# Altium footprint library Res_Cement_Pcb.PcbLib: 1 footprints
Each footprint in its own frame and in the unit in brackets; x right, y up, seen from the top. Pads: shape width x height; smd on the part's side, far side on the other; paste and mask are expansions set on the pad; w line width, h text height; cw(c..) or ccw(c..) is an arc to the next point about the centre after c.
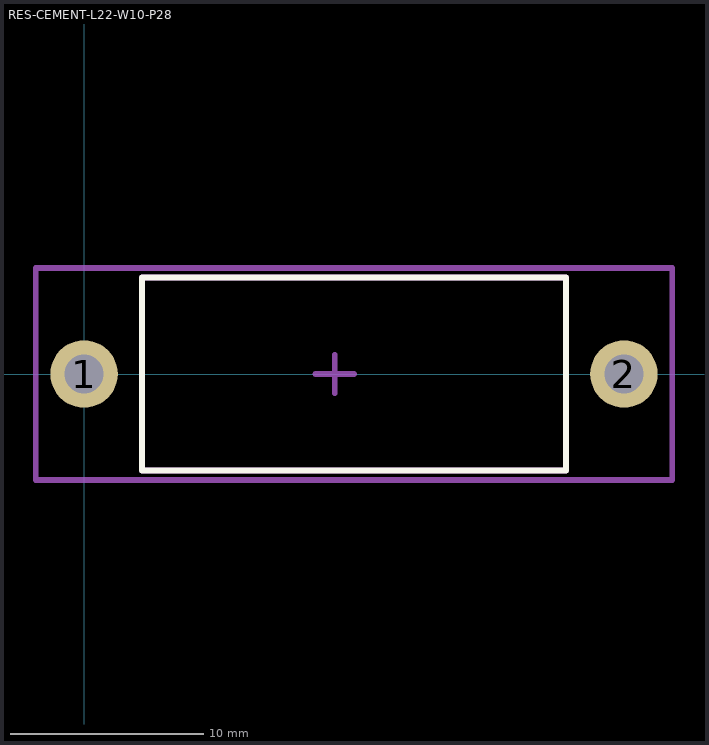
[diagram p0: the footprint, top view; thin cyan lines are the x and y axes]

## RES-CEMENT-L22-W10-P28 [mm]
pads (2):
  round 3.5 hole 2: 1(0,0) 2(28,0)
Top Overlay:
  lines w0.3: 3,-5 25,-5 25,5 3,5 3,0 3,-5
Mechanical 13:
  lines w0.3: 3,-5 25,-5 25,5 3,5 3,0 3,-5
  text ".Designator" at 10.15,-3.821 h1.5
Mechanical 15:
  lines w0.3: 12,0 14,0 ; 13,-1 13,1 ; -2.5,-5.5 30.5,-5.5 30.5,5.5 -2.5,5.5 -2.5,0 -2.5,-5.5
3D body "Cement Fixed Resistors 5W 1R5 PCB Horizontal.step": height 9.01, standoff -3.59, extent -0.345,-5 28.345,5